# EAGLE library part 111-050-113L001 (library SamacSys_Parts)
NORCOMP - 111-050-113L001 - CONNECTOR, SCSI, PLUG, 50 POSITION, SOLDER Source: Datasheet <https://www.norcomp.net/rohspdfs/SCSI-050Ribbon/11Y/111/111-YYY-113L001.pdf>
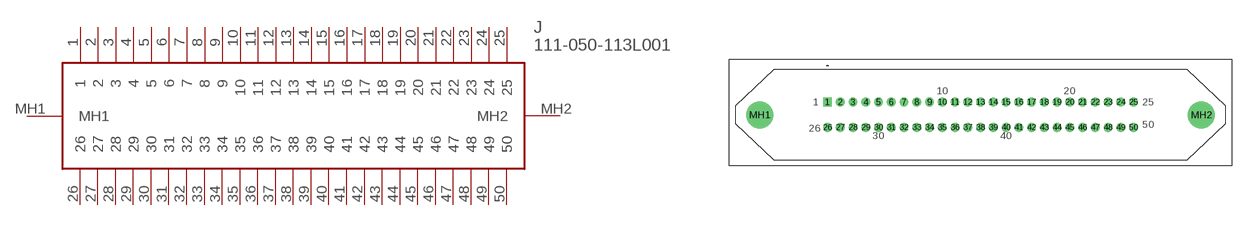
[diagram p6: symbol with the pads of 111050113L001; footprint 111050113L001]

Designator prefix J

## 111-050-113L001 (DESCRIPTION: NORCOMP - 111-050-113L001 - CONNECTOR, SCSI, PLUG, 50 POSITION, SOLDER; HEIGHT: 12.55mm; MANUFACTURER_NAME: NorComp; MANUFACTURER_PART_NUMBER: 111-050-113L001; MOUSER_PART_NUMBER: 636-111-050-113L001; MOUSER_PRICE-STOCK: https://www.mouser.co.uk/ProductDetail/NorComp/111-050-113L001?qs=IGgAdOvCTsQc%252BHRn9uTSXA%3D%3D)  [111050113L001]
1  1
2  2
3  3
4  4
5  5
6  6
7  7
8  8
9  9
10  10
11  11
12  12
13  13
14  14
15  15
16  16
17  17
18  18
19  19
20  20
21  21
22  22
23  23
24  24
25  25
26  26
27  27
28  28
29  29
30  30
31  31
32  32
33  33
34  34
35  35
36  36
37  37
38  38
39  39
40  40
41  41
42  42
43  43
44  44
45  45
46  46
47  47
48  48
49  49
50  50
MH1  MH1
MH2  MH2

## Footprint 111050113L001 (pad centres in mm)
111-050-113L001-1
drill 1 pad 1.5 square: 1 0,0
drill 1 pad 1.5: 2 2.16,0; 3 4.32,0; 4 6.48,0; 5 8.64,0; 6 10.8,0; 7 12.96,0; 8 15.12,0; 9 17.28,0; 10 19.44,0; 11 21.6,0; 12 23.76,0; 13 25.92,0; 14 28.08,0; 15 30.24,0; 16 32.4,0; 17 34.56,0; 18 36.72,0; 19 38.88,0; 20 41.04,0; 21 43.2,0; 22 45.36,0; 23 47.52,0; 24 49.68,0; 25 51.84,0; 26 0,-4.29; 27 2.16,-4.29; 28 4.32,-4.29; 29 6.48,-4.29; 30 8.64,-4.29; 31 10.8,-4.29; 32 12.96,-4.29; 33 15.12,-4.29; 34 17.28,-4.29; 35 19.44,-4.29; 36 21.6,-4.29; 37 23.76,-4.29; 38 25.92,-4.29; 39 28.08,-4.29; 40 30.24,-4.29; 41 32.4,-4.29; 42 34.56,-4.29; 43 36.72,-4.29; 44 38.88,-4.29; 45 41.04,-4.29; 46 43.2,-4.29; 47 45.36,-4.29; 48 47.52,-4.29; 49 49.68,-4.29; 50 51.84,-4.29
drill 3.05 pad 4.575: MH1 -11.505,-2.145; MH2 63.345,-2.145